# EAGLE library part SX1278 (library IC_Wireless-RF)
SX1278 - 137 - 525 MHz Low Power Long Range Transceiver Datasheet <https://semtech.my.salesforce.com/sfc/p/#E0000000JelG/a/2R0000001Rbr/6EfVZUorrpoKFfvaF_Fkpgp5kzjiNyiAbqcpqh9qSjE> Product Page <https://www.semtech.com/products/wireless-rf/lora-core/sx1278>
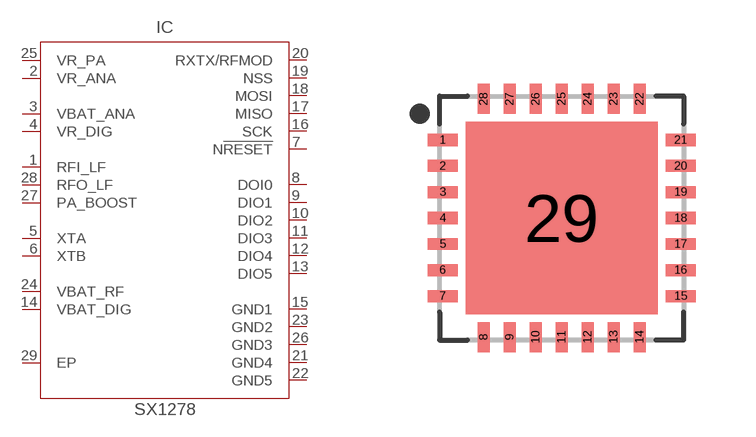
[diagram p2: symbol with the pads of QFN65P600X600X100-29T480; footprint QFN65P600X600X100-29T480]

Designator prefix IC

## SX1278 (CATEGORY: IC_Wireless-RF; DESCRIPTION: IC RF TXRX 802.15.4 28VQFN; FREQUENCY: 137MHz ~ 525MHz; MANUFACTURER: Semtech; MPN: SX1278IMLTRT; OPERATING_TEMP: -40°C to 85°C; PART_STATUS: Active; SERIES: SX1278; SUB-CATEGORY: Transceiver; TYPE: LoRa Core™; VALUE: SX1278)  [QFN65P600X600X100-29T480]
1  RFI_LF  in
2  VR_ANA  pwr
3  VBAT_ANA  pwr
4  VR_DIG  pwr
5  XTA
6  XTB
7  N!RESET!  in
8  DOI0  pas
9  DIO1
10  DIO2
11  DIO3
12  DIO4
13  DIO5
14  VBAT_DIG  pwr
15  GND1  pas
16  SCK  in
17  MISO  out
18  MOSI  in
19  NSS  in
20  RXTX/RFMOD  out
21  GND4  in
22  GND5  out
23  GND2  pas
24  VBAT_RF  pwr
25  VR_PA  pwr
26  GND3  pas
27  PA_BOOST  out
28  RFO_LF  out
29  EP  pas

## Footprint QFN65P600X600X100-29T480 (pad centres in mm)
28-QFN, 0.65 mm pitch, 6.00 X 6.00 X 1.00 mm body, 4.80 X 4.80 mm thermal pad 28-pin QFN package with 0.65 mm pitch with body size 6.00 X 6.00 X 1.00 mm and thermal pad size 4.80 X 4.80 mm
smd 0.75 x 0.3: 1 -2.975,1.95; 2 -2.975,1.3; 3 -2.975,0.65; 4 -2.975,0; 5 -2.975,-0.65; 6 -2.975,-1.3; 7 -2.975,-1.95; 15 2.975,-1.95; 16 2.975,-1.3; 17 2.975,-0.65; 18 2.975,0; 19 2.975,0.65; 20 2.975,1.3; 21 2.975,1.95
smd 0.3 x 0.75: 8 -1.95,-2.975; 9 -1.3,-2.975; 10 -0.65,-2.975; 11 0,-2.975; 12 0.65,-2.975; 13 1.3,-2.975; 14 1.95,-2.975; 22 1.95,2.975; 23 1.3,2.975; 24 0.65,2.975; 25 0,2.975; 26 -0.65,2.975; 27 -1.3,2.975; 28 -1.95,2.975
smd 4.8 x 4.8: 29 0,0